# Altium footprint library SO-8.PcbLib: 1 footprints
Each footprint in its own frame and in the unit in brackets; x right, y up, seen from the top. Pads: shape width x height; smd on the part's side, far side on the other; paste and mask are expansions set on the pad; w line width, h text height; cw(c..) or ccw(c..) is an arc to the next point about the centre after c.
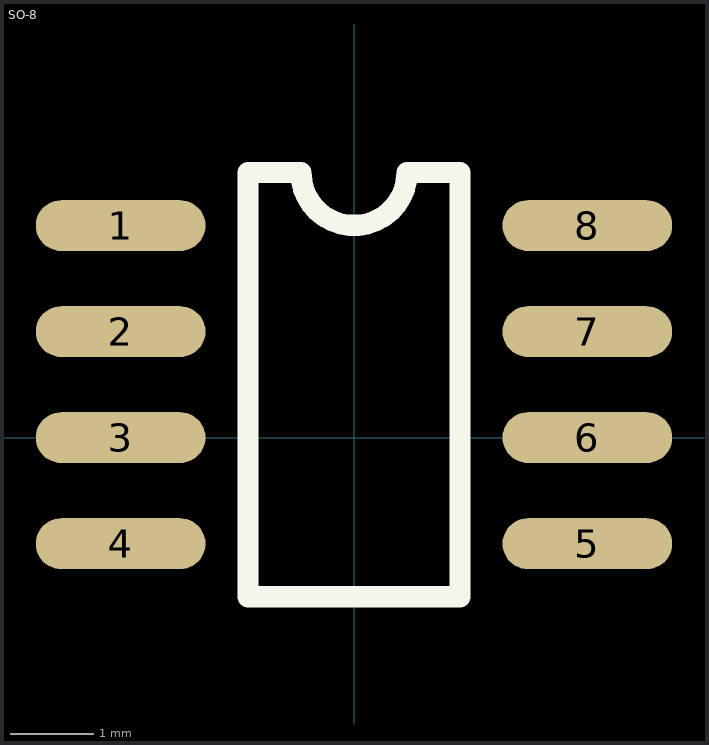
[diagram p0: the footprint, top view; thin cyan lines are the x and y axes]

## SO-8 [mil] "SO-8"
pads (8):
  oval 80x24 smd: 1(-110,100) 2(-110,50) 3(-110,0) 4(-110,-50) 5(110,-50) 6(110,0) 7(110,50) 8(110,100)
Top Overlay:
  lines w10: -50,-75 50,-75 50,125 25,125 cw(c0,125) -25,125 -50,125 -50,-75